# Altium schematic symbol library DRV8800RTYR sch.SchLib: 1 symbol
Pins are listed as number, name and electrical type; pins without a type are passive.

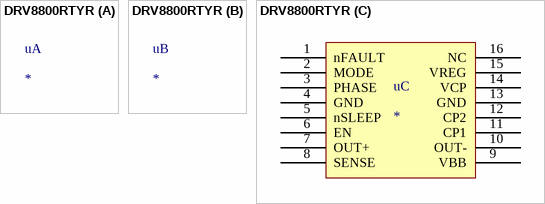
[diagram p0: symbol DRV8800RTYR]

## DRV8800RTYR
designator u
footprint DRV8800RTYR
part C pins: 1 nFAULT, 2 MODE, 3 PHASE, 4 GND, 5 nSLEEP, 6 EN, 7 OUT+ (power), 8 SENSE, 9 VBB (power), 10 OUT- (power), 11 CP1, 12 CP2, 13 GND, 14 VCP, 15 VREG, 16 NC